# Altium footprint library SOT-23-8.PcbLib: 1 footprints
Each footprint in its own frame and in the unit in brackets; x right, y up, seen from the top. Pads: shape width x height; smd on the part's side, far side on the other; paste and mask are expansions set on the pad; w line width, h text height; cw(c..) or ccw(c..) is an arc to the next point about the centre after c.
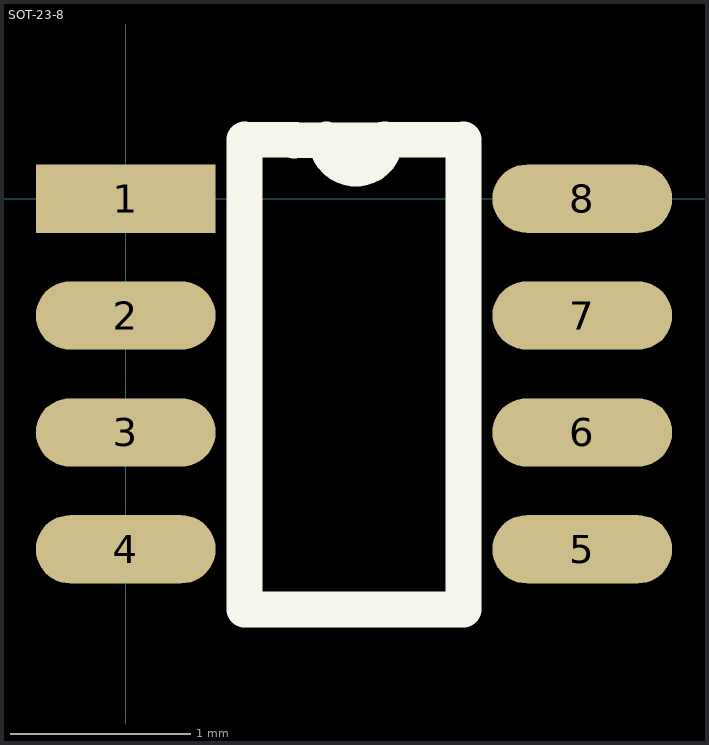
[diagram p0: the footprint, top view; thin cyan lines are the x and y axes]

## SOT-23-8 [mm]
pads (8):
  rect 1x0.38 smd: 1(0,0)
  oval 1x0.38 smd: 2(0,-0.65) 3(0,-1.3) 4(0,-1.95) 5(2.54,-1.95) 6(2.54,-1.3) 7(2.54,-0.65) 8(2.54,0)
Top Overlay:
  lines w0.2: 0.938,0.325 1.88,0.33 1.88,-2.286 0.66,-2.286 0.66,0.33 1.262,0.325 ; 1.118,0.33 ccw(c1.28,0.33) 1.443,0.33